# Altium footprint library 14110313001000.PcbLib: 1 footprints
Each footprint in its own frame and in the unit in brackets; x right, y up, seen from the top. Pads: shape width x height; smd on the part's side, far side on the other; paste and mask are expansions set on the pad; w line width, h text height; cw(c..) or ccw(c..) is an arc to the next point about the centre after c.
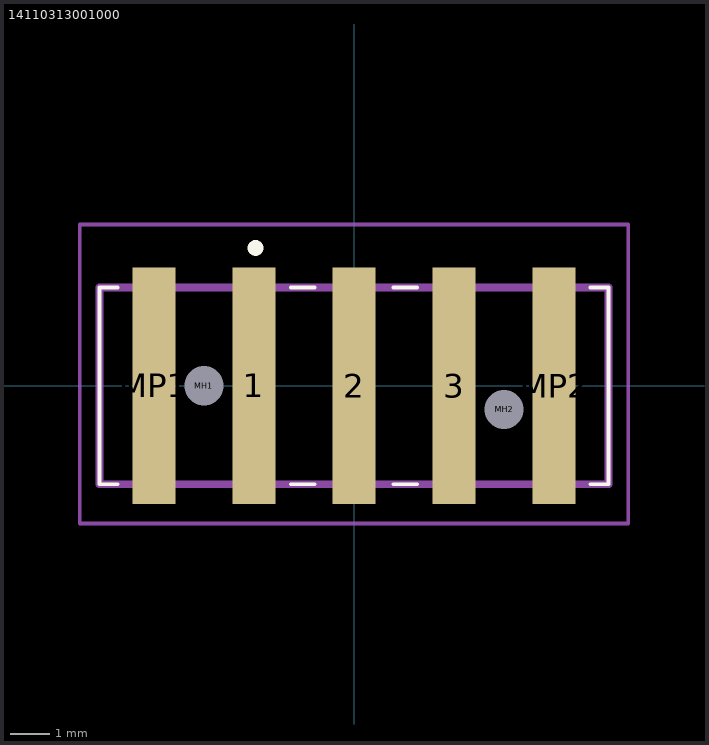
[diagram p0: the footprint, top view; thin cyan lines are the x and y axes]

## 14110313001000 [mm]
pads (7):
  rect 1.1x6 smd: 1(-2.54,0) 2(0,0) 3(2.54,0) MP1(-5.08,0) MP2(5.08,0)
  round 0.5 hole 1 unplated: MH1(-3.81,0) MH2(3.81,-0.6)
Top Overlay:
  lines w0.1: -6,-2.5 -6.465,-2.5 -6.465,2.5 -6,2.5 ; -1.6,-2.5 -1,-2.5 ; -1.6,2.5 -1,2.5 ; 1,-2.5 1.6,-2.5 ; 1,2.5 1.6,2.5 ; 6,-2.5 6.465,-2.5 6.465,2.5 6,2.5
  lines w0.2: -2.6,3.5 -2.6,3.5 ; -2.6,3.5 ccw(c-2.5,3.5) -2.4,3.5 ; -2.6,3.5 cw(c-2.5,3.5) -2.4,3.5 ; -2.4,3.5 -2.4,3.5
Mechanical 15:
  lines w0.2: -6.465,-2.5 6.465,-2.5 6.465,2.5 -6.465,2.5 -6.465,-2.5
Mechanical 20:
  lines w0.1: -6.965,-3.5 6.965,-3.5 6.965,4.1 -6.965,4.1 -6.965,-3.5